# EAGLE library part MC14538BCPG (library ON Semiconductor_By_element14_Batch_1)
Monostable Multivibrator
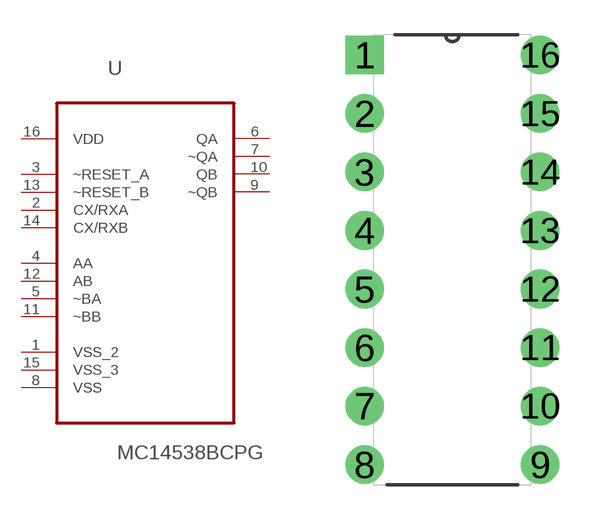
[diagram p291: symbol with the pads of DIP254P762X444-16; footprint DIP254P762X444-16]

Designator prefix U

## MC14538BCPG (MPN: MC14538BCPG; OC_FARNELL: 9665650; OC_NEWARK: 45J1120; P1I: o; PACKAGE: PDIP-16; SUPPLIER: On semiconductors)  [DIP254P762X444-16]
1  VSS_2  pwr
2  CX/RXA  pas
3  ~RESET_A  in
4  AA  in
5  ~BA  in
6  QA  out
7  ~QA  out
8  VSS  pwr
9  ~QB  out
10  QB  out
11  ~BB  in
12  AB  in
13  ~RESET_B  in
14  CX/RXB  pas
15  VSS_3  pwr
16  VDD  pwr

## Footprint DIP254P762X444-16 (pad centres in mm)
drill 1.118 square: 1 -7.62,17.78
drill 1.118: 2 -7.62,15.24; 3 -7.62,12.7; 4 -7.62,10.16; 5 -7.62,7.62; 6 -7.62,5.08; 7 -7.62,2.54; 8 -7.62,0; 9 0,0; 10 0,2.54; 11 0,5.08; 12 0,7.62; 13 0,10.16; 14 0,12.7; 15 0,15.24; 16 0,17.78